# Altium schematic symbol library THD Amplifiers.SchLib: 4 symbols
Pins are listed as number, name and electrical type; pins without a type are passive.

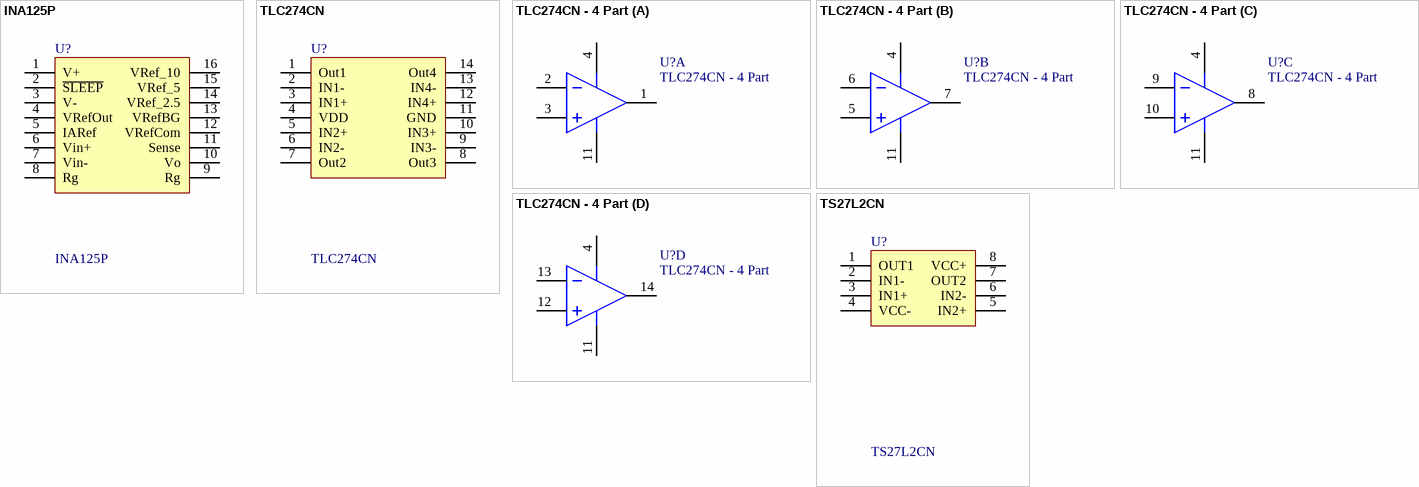
[diagram p0: symbols INA125P to TS27L2CN]

## INA125P
designator U?
INAmp with Precision Voltage References - BB
footprint DIP16-300 (DIP, Molded; 16 Leads; Row Spacing 7.62 mm; Pitch 2.54 mm)
pins: 1 V+, 2 ~{SLEEP}, 3 V-, 4 VRefOut, 5 IARef, 6 Vin+, 7 Vin-, 8 Rg, 9 Rg, 10 Vo, 11 Sense, 12 VRefCom, 13 VRefBG, 14 VRef_2.5, 15 VRef_5, 16 VRef_10

## TLC274CN
designator U?
LinCMOS, Precision Quad Op Amp
footprint DIP14-300 (DIP, Molded; 16 Leads; Row Spacing 7.62 mm; Pitch 2.54 mm)
pins: 1 Out1, 2 IN1-, 3 IN1+, 4 VDD, 5 IN2+, 6 IN2-, 7 Out2, 8 Out3, 9 IN3-, 10 IN3+, 11 GND, 12 IN4+, 13 IN4-, 14 Out4

## TLC274CN - 4 Part
designator U?
LinCMOS Precision Quad Operational Amplifier; Published: 15-Apr-2002; LatestRevisionDate: 13-Apr-2006; LatestRevisionNote: IPC-7351 Footprint Added.; DatasheetVersion: Aug-1988; PackageVersion: Jan-1998; PackageReference: D014; Publisher: Altium Limited; PackageDescription: 14-Pin Small Outline Integrated Circuit 1.27 mm Pitch; Code_IPC: SOIC127P600-14; ComponentLink1Description: Manufacturer Link; ComponentLink1URL: http://www.ti.com/; ComponentLink2Description: Datasheet; ComponentLink2URL: http://www-s.ti.com/sc/ds/tlc274a.pdf
footprint DIP14-300 (DIP, Molded; 16 Leads; Row Spacing 7.62 mm; Pitch 2.54 mm)
pins on every part: 4 V+ (power), 11 V- (power)
part A pins: 1 OUT, 2 IN-, 3 IN+
part B pins: 5 IN+, 6 IN-, 7 OUT
part C pins: 8 OUT, 9 IN-, 10 IN+
part D pins: 12 IN+, 13 IN-, 14 OUT

## TS27L2CN
designator U?
Precision Very Low Power CMOS Dual Op Amp
footprint DIP8-300 (DIP; 8 Leads; Row Spacing 7.62 mm; Pitch 2.54 mm)
pins: 1 OUT1, 2 IN1-, 3 IN1+, 4 VCC-, 5 IN2+, 6 IN2-, 7 OUT2, 8 VCC+